# Altium schematic symbol library Dell_dc_conectors.SchLib: 1 symbol
Pins are listed as number, name and electrical type; pins without a type are passive.

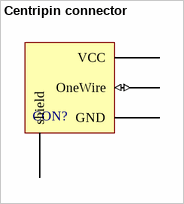
[diagram p0: symbol Centripin connector]

## Centripin connector
designator CON?  (value not drawn)
7.4x5mm
footprint Dell_centripin
pins: 0 shield, 1 GND, 2 OneWire (io), 3 VCC (power)